# Altium schematic symbol library MPZ2012S102AT000.SchLib: 1 symbol
Pins are listed as number, name and electrical type; pins without a type are passive.

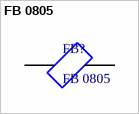
[diagram p0: symbol FB 0805]

## FB 0805
designator FB?
BLM21AG331SN1D-Murata-Ferrite Beads Multi-Layer 330Ohm 25% 100MHz 0.8A 0.15Ohm DCR 0805 T/R; MP: MPZ2012S102AT000; Package: None; Price: None; Value: *; Availability: Unavailable
footprint BEADC2012X105N
pins: 1, 2